# Altium integrated library T495B106K010ATE600.IntLib: 1 symbol
Pins are listed as number, name and electrical type; pins without a type are passive.

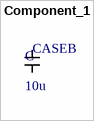
[diagram p0: symbol Component_1]

## Component_1
designator C, comment 10u  Case type: CASEB
Buying URL:: https://uk.farnell.com/kemet/t495b106k010ate600/cap-tantalum-10uf-10v-case-b/dp/2676319?st=10u%20CASE%20B
footprint CAPC3528X21N (Chip Capacitor, 2-Leads, Body 3.50x2.80mm, IPC Medium Density)
pins: 1, 2